# EAGLE library part ICM-20948 (library dawidkulpa_dev)
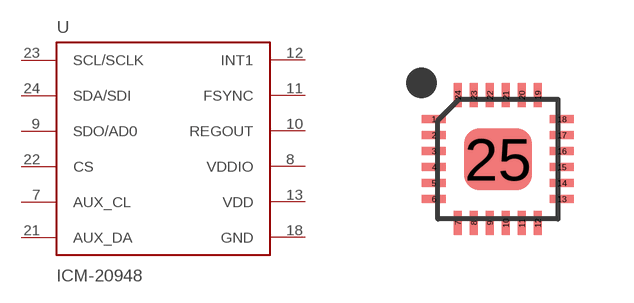
[diagram p36: symbol with the pads of LEAD-QFN24; footprint LEAD-QFN24]

Designator prefix -

## ICM-20948  [LEAD-QFN24]
7  AUX_CL
8  VDDIO
9  SDO/AD0
10  REGOUT
11  FSYNC
12  INT1
13  VDD
18  GND
21  AUX_DA
22  CS
23  SCL/SCLK
24  SDA/SDI

## Footprint LEAD-QFN24 (pad centres in mm)
smd 0.6 x 0.2: 1 -1.6,1; 2 -1.6,0.6; 3 -1.6,0.2; 4 -1.6,-0.2; 5 -1.6,-0.6; 6 -1.6,-1; 13 1.6,-1; 14 1.6,-0.6; 15 1.6,-0.2; 16 1.6,0.2; 17 1.6,0.6; 18 1.6,1
smd 0.2 x 0.6: 7 -1,-1.6; 8 -0.6,-1.6; 9 -0.2,-1.6; 10 0.2,-1.6; 11 0.6,-1.6; 12 1,-1.6; 19 1,1.6; 20 0.6,1.6; 21 0.2,1.6; 22 -0.2,1.6; 23 -0.6,1.6; 24 -1,1.6
smd 1.7 x 1.54: 25 0,0